# Altium schematic symbol library Darkside_Lib.SchLib: 35 symbols
Pins are listed as number, name and electrical type; pins without a type are passive.

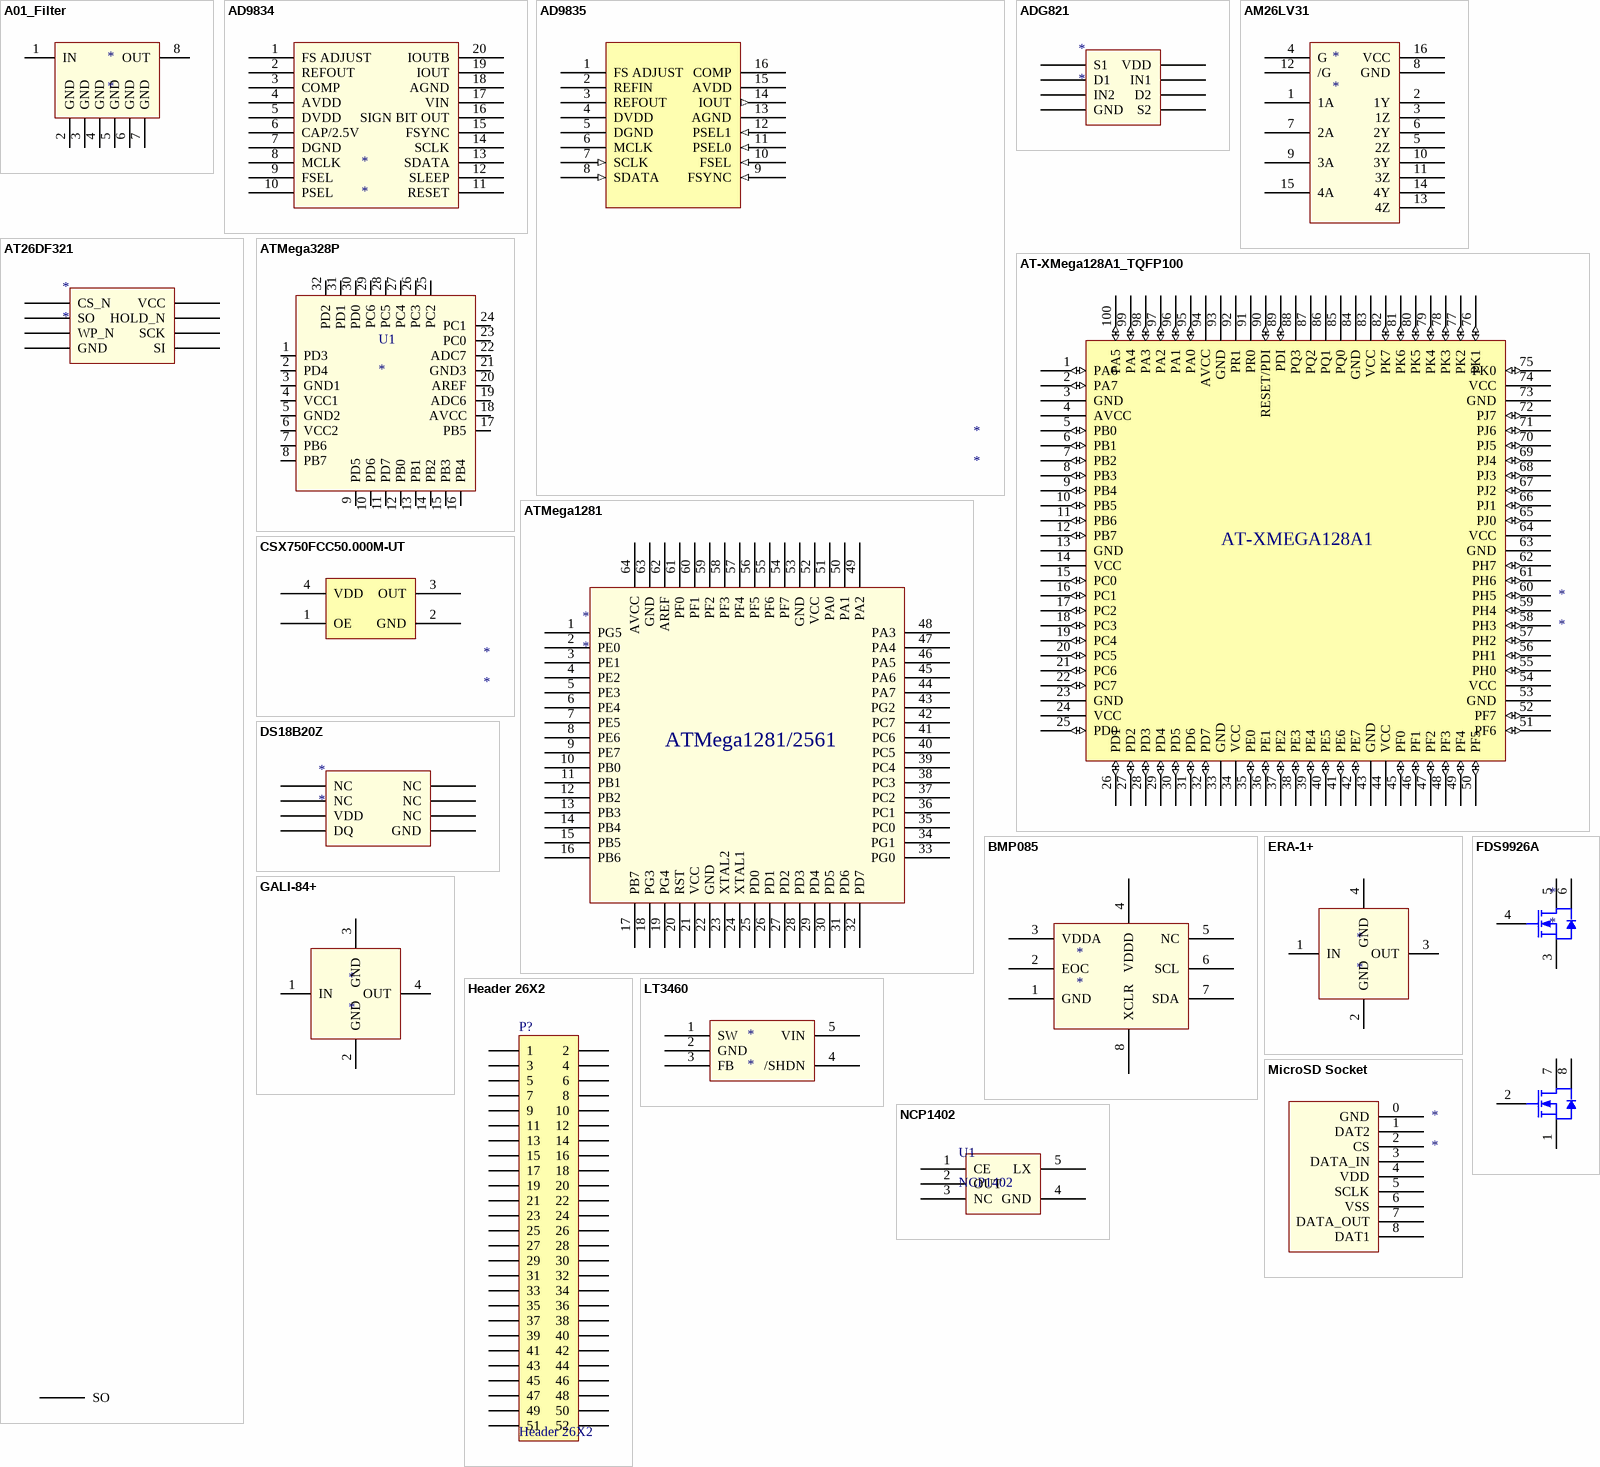
[diagram p0: symbols A01_Filter to NCP1402]

## A01_Filter
designator *
footprint A01
pins: 1 IN, 2 GND, 3 GND, 4 GND, 5 GND, 6 GND, 7 GND, 8 OUT

## AD9834
designator *
footprint TSOP20 (TSOP, 20-Leads, Body 6.6x4.5mm (max), Pitch 0.65mm, IPC Medium Density)
pins: 1 FS ADJUST, 2 REFOUT, 3 COMP, 4 AVDD, 5 DVDD, 6 CAP/2.5V, 7 DGND, 8 MCLK, 9 FSEL, 10 PSEL, 11 RESET, 12 SLEEP, 13 SDATA, 14 SCLK, 15 FSYNC, 16 SIGN BIT OUT, 17 VIN, 18 AGND, 19 IOUT, 20 IOUTB

## AD9835
designator *
footprint TSSOP16 (Footprint not found)
pins: 1 FS ADJUST, 2 REFIN, 3 REFOUT, 4 DVDD (power), 5 DGND (power), 6 MCLK, 7 SCLK (in), 8 SDATA (in), 9 FSYNC (in), 10 FSEL (in), 11 PSEL0 (in), 12 PSEL1 (in), 13 AGND (power), 14 IOUT (out), 15 AVDD (power), 16 COMP

## ADG821
designator *
footprint TSOP_8_AD (TSOP, 8-Leads, Body 3.2x3.2mm (max), Pitch 0.65mm, IPC Medium Density)
pins: 1 S1, 2 D1, 3 IN2, 4 GND, 5 S2, 6 D2, 7 IN1, 8 VDD

## AM26LV31
designator *
footprint SOP127P600X175-16N (SOP, 16-Leads, Body 10.0x4.0mm (max), Pitch 1.27mm, IPC Medium Density)
pins: 1 1A, 2 1Y, 3 1Z, 4 G, 5 2Z, 6 2Y, 7 2A, 8 GND, 9 3A, 10 3Y, 11 3Z, 12 /G, 13 4Z, 14 4Y, 15 4A, 16 VCC

## AT26DF321
designator *
footprint SOIC127P800X216-8N (SOIC, 8-Leads, Body 5.3x5.4mm (max), Pitch 1.27mm, IPC Medium Density)
pins: 1 CS_N, 2 SO, 3 SO, 3 WP_N, 4 GND, 5 SI, 6 SCK, 7 HOLD_N, 8 VCC

## AT-XMega128A1_TQFP100
designator *
footprint TQFP100_L (Footprint not found)
pins: 1 PA6 (io), 2 PA7 (io), 3 GND (power), 4 AVCC (power), 5 PB0 (io), 6 PB1 (io), 7 PB2 (io), 8 PB3 (io), 9 PB4 (io), 10 PB5 (io), 11 PB6 (io), 12 PB7 (io), 13 GND (power), 14 VCC (power), 15 PC0 (io), 16 PC1 (io), 17 PC2 (io), 18 PC3 (io), 19 PC4 (io), 20 PC5 (io), 21 PC6 (io), 22 PC7 (io), 23 GND (power), 24 VCC (power), 25 PD0 (io), 26 PD1 (io), 27 PD2 (io), 28 PD3 (io), 29 PD4 (io), 30 PD5 (io), 31 PD6 (io), 32 PD7 (io), 33 GND (power), 34 VCC (power), 35 PE0 (io), 36 PE1 (io), 37 PE2 (io), 38 PE3 (io), 39 PE4 (io), 40 PE5 (io), 41 PE6 (io), 42 PE7 (io), 43 GND (power), 44 VCC (power), 45 PF0 (io), 46 PF1 (io), 47 PF2 (io), 48 PF3 (io), 49 PF4 (io), 50 PF5 (io), 51 PF6 (io), 52 PF7 (io), 53 GND (power), 54 VCC (power), 55 PH0 (io), 56 PH1 (io), 57 PH2 (io), 58 PH3 (io), 59 PH4 (io), 60 PH5 (io), 61 PH6 (io), 62 PH7 (io), 63 GND (power), 64 VCC (power), 65 PJ0 (io), 66 PJ1 (io), 67 PJ2 (io), 68 PJ3 (io), 69 PJ4 (io), 70 PJ5 (io), 71 PJ6 (io), 72 PJ7 (io), 73 GND (power), 74 VCC (power), 75 PK0 (io), 76 PK1 (io), 77 PK2 (io), 78 PK3 (io), 79 PK4 (io), 80 PK5 (io), 81 PK6 (io), 82 PK7 (io), 83 VCC (power), 84 GND (power), 85 PQ0, 86 PQ1, 87 PQ2, 88 PQ3, 89 PDI (io), 90 RESET/PDI (io), 91 PR0, 92 PR1, 93 GND (power), 94 AVCC (power), 95 PA0 (io), 96 PA1 (io), 97 PA2 (io), 98 PA3 (io), 99 PA4 (io), 100 PA5 (io)
text: AT-XMEGA128A1

## ATMega328P
designator U1
footprint TQFP32 (TQFP, 32-Leads, Body 7.3x9.3mm (max), Pitch 0.80mm, IPC Medium Density)
pins: 1 PD3, 2 PD4, 3 GND1, 4 VCC1, 5 GND2, 6 VCC2, 7 PB6, 8 PB7, 9 PD5, 10 PD6, 11 PD7, 12 PB0, 13 PB1, 14 PB2, 15 PB3, 16 PB4, 17 PB5, 18 AVCC, 19 ADC6, 20 AREF, 21 GND3, 22 ADC7, 23 PC0, 24 PC1, 25 PC2, 26 PC3, 27 PC4, 28 PC5, 29 PC6, 30 PD0, 31 PD1, 32 PD2

## ATMega1281
designator *
footprint TQFP80P1600X1600X120-64N (TQFP, 64-Leads, Body 16.3x16.3mm (max), Pitch 0.80mm, IPC Medium Density)
pins: 1 PG5 "OC0B", 2 PE0 "OC0B", 3 PE1 "OC0B", 4 PE2 "OC0B", 5 PE3 "OC0B", 6 PE4 "OC0B", 7 PE5 "OC0B", 8 PE6 "OC0B", 9 PE7 "OC0B", 10 PB0 "OC0B", 11 PB1 "OC0B", 12 PB2 "OC0B", 13 PB3 "OC0B", 14 PB4 "OC0B", 15 PB5 "OC0B", 16 PB6 "OC0B", 17 PB7 "OC0B", 18 PG3 "OC0B", 19 PG4 "OC0B", 20 RST "OC0B", 21 VCC "OC0B", 22 GND "OC0B", 23 XTAL2 "OC0B", 24 XTAL1 "OC0B", 25 PD0 "OC0B", 26 PD1 "OC0B", 27 PD2 "OC0B", 28 PD3 "OC0B", 29 PD4 "OC0B", 30 PD5 "OC0B", 31 PD6 "OC0B", 32 PD7 "OC0B", 33 PG0 "OC0B", 34 PG1 "OC0B", 35 PC0 "OC0B", 36 PC1 "OC0B", 37 PC2 "OC0B", 38 PC3 "OC0B", 39 PC4 "OC0B", 40 PC5 "OC0B", 41 PC6 "OC0B", 42 PC7 "OC0B", 43 PG2 "OC0B", 44 PA7 "OC0B", 45 PA6 "OC0B", 46 PA5 "OC0B", 47 PA4 "OC0B", 48 PA3 "OC0B", 49 PA2 "OC0B", 50 PA1 "OC0B", 51 PA0 "OC0B", 52 VCC "OC0B", 53 GND "OC0B", 54 PF7 "OC0B", 55 PF6 "OC0B", 56 PF5 "OC0B", 57 PF4 "OC0B", 58 PF3 "OC0B", 59 PF2 "OC0B", 60 PF1 "OC0B", 61 PF0 "OC0B", 62 AREF "OC0B", 63 GND "OC0B", 64 AVCC "OC0B"
text: ATMega1281/2561

## BMP085
designator *
footprint BMP085
pins: 1 GND, 2 EOC, 3 VDDA, 4 VDDD, 5 NC, 6 SCL, 7 SDA, 8 XCLR

## CSX750FCC50.000M-UT
designator *
footprint QFN50P700X500X160-4N (QFN, 4-Leads, Body 5.2x7.2mm (max), Pitch 5.08mm, Pitch1 0.50mm, IPC Medium Density)
pins: 1 OE, 2 GND, 3 OUT, 4 VDD

## DS18B20Z
designator *
footprint SO8_M (SOIC, 8-Leads, Body 4.9x3.9mm, Pitch 1.27mm, IPC Low Density)
pins: 1 NC, 2 NC, 3 VDD, 4 DQ, 5 GND, 6 NC, 7 NC, 8 NC

## ERA-1+
designator *
footprint VV105
pins: 1 IN, 2 GND, 3 OUT, 4 GND

## FDS9926A
designator *
footprint SO8_M (SOIC, 8-Leads, Body 4.9x3.9mm, Pitch 1.27mm, IPC Low Density)
pins: 1 S, 2 G, 3 S, 4 G, 5 D, 6 D, 7 D, 8 D

## GALI-84+
designator *
footprint DF782
pins: 1 IN, 2 GND, 3 GND, 4 OUT

## Header 26X2
designator P?
Header, 25-Pin, Dual row; LatestRevisionDate: 17-Jul-2002; LatestRevisionNote: Re-released for DXP Platform.; Publisher: Altium Limited
signal-integrity model Connector
footprint HDR2X26 (Connector; Header; 25x2 Position)
pins: 1, 2, 3, 4, 5, 6, 7, 8, 9, 10, 11, 12, 13, 14, 15, 16, 17, 18, 19, 20, 21, 22, 23, 24, 25, 26, 27, 28, 29, 30, 31, 32, 33, 34, 35, 36, 37, 38, 39, 40, 41, 42, 43, 44, 45, 46, 47, 48, 49, 50, 51, 52

## LT3460
designator *
footprint SOT95P280X100-5N (SOT23, 5-Leads, Body 2.9x2.8mm (max), Pitch 0.95mm, IPC Medium Density)
pins: 1 SW, 2 GND, 3 FB, 4 /SHDN, 5 VIN

## MicroSD Socket
designator *
footprint microSD Socket
pins: 0 GND, 1 DAT2, 2 CS, 3 DATA_IN, 4 VDD, 5 SCLK, 6 VSS, 7 DATA_OUT, 8 DAT1

## NCP1402
designator U1
footprint SOT95P280X100-5N (SOT23, 5-Leads, Body 2.9x2.8mm (max), Pitch 0.95mm, IPC Medium Density)
pins: 1 CE, 2 OUT, 3 NC, 4 GND, 5 LX

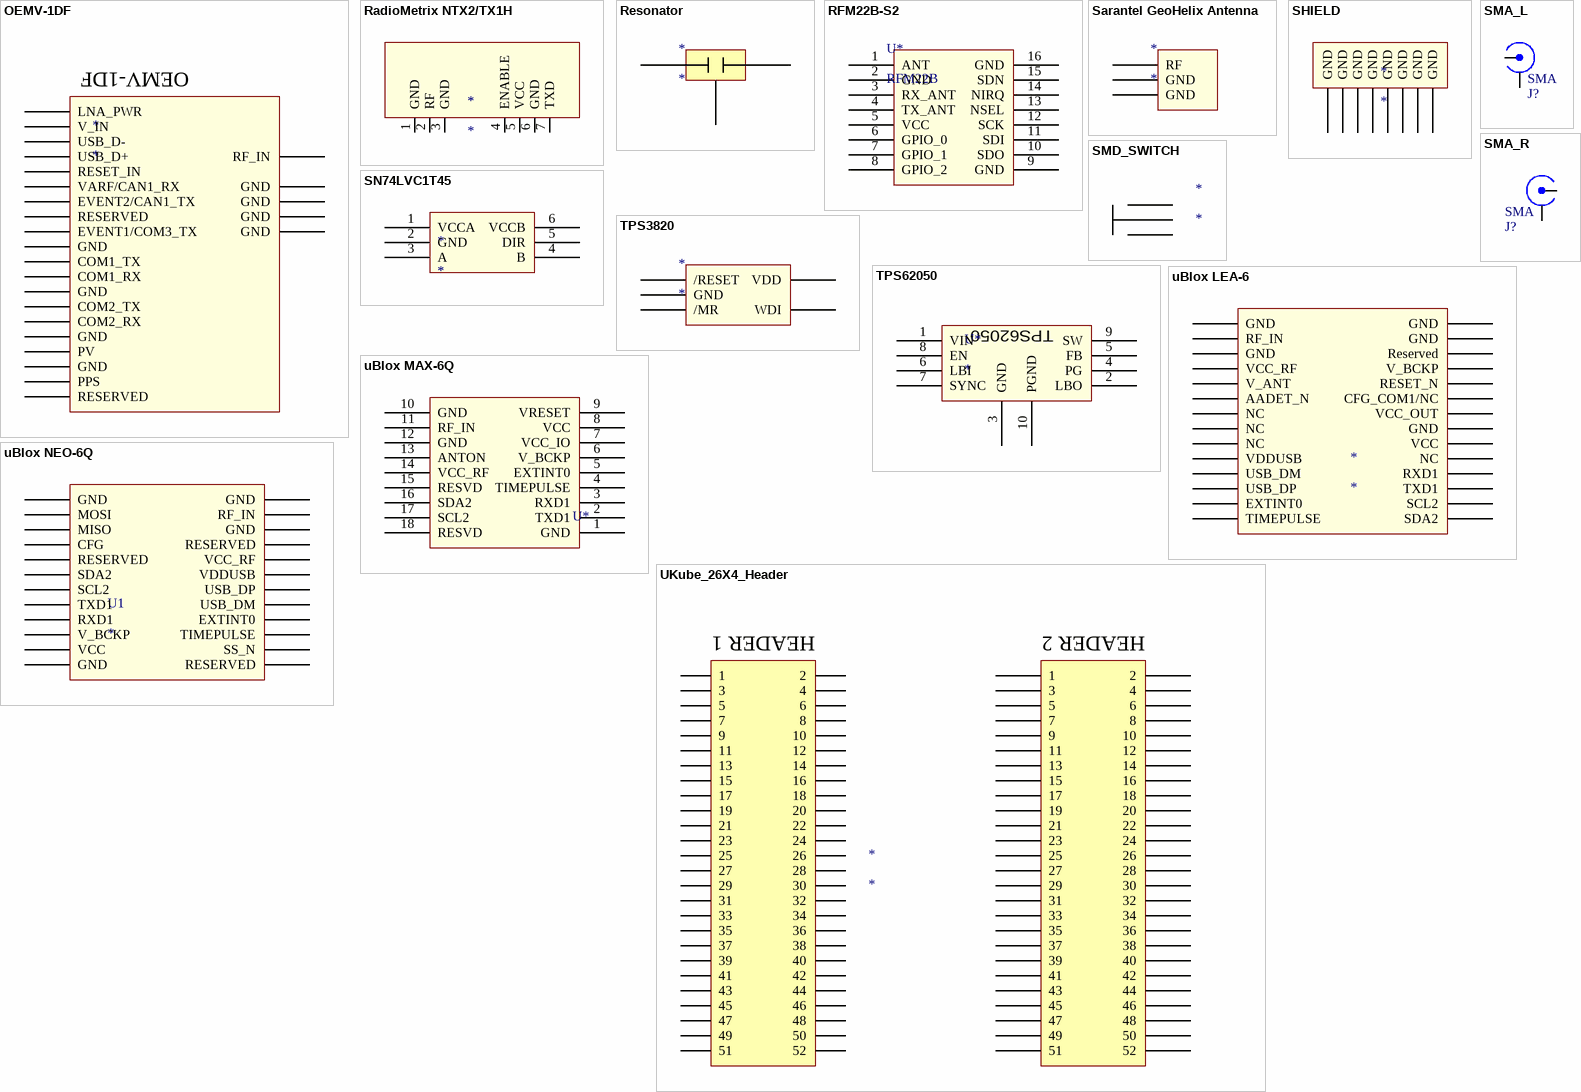
[diagram p1: symbols OEMV-1DF to UKube_26X4_Header]

## OEMV-1DF
designator *
footprint OEMV_1DF
pins: 1 LNA_PWR, 2 V_IN, 3 USB_D-, 4 USB_D+, 5 RESET_IN, 6 VARF/CAN1_RX, 7 EVENT2/CAN1_TX, 8 RESERVED, 9 EVENT1/COM3_TX, 10 GND, 11 COM1_TX, 12 COM1_RX, 13 GND, 14 COM2_TX, 15 COM2_RX, 16 GND, 17 PV, 18 GND, 19 PPS, 20 RESERVED, 21 RF_IN, 22 GND, 23 GND, 24 GND, 25 GND

## RadioMetrix NTX2/TX1H
designator *
footprint NTX2
pins: 1 GND, 2 RF, 3 GND, 4 ENABLE, 5 VCC, 6 GND, 7 TXD

## Resonator
designator *
footprint ABM3-RESONATOR
pins: 1, 2, 3

## RFM22B-S2
designator U*, comment RFM22B
footprint RFM22B
pins: 1 ANT, 2 GND, 3 RX_ANT, 4 TX_ANT, 5 VCC, 6 GPIO_0, 7 GPIO_1, 8 GPIO_2, 9 GND, 10 SDO, 11 SDI, 12 SCK, 13 NSEL, 14 NIRQ, 15 SDN, 16 GND

## Sarantel GeoHelix Antenna
designator *
footprint SARANTEL SL1204
footprint Sarantel SL1202RH
pins: 1 RF, 2 GND, 3 GND

## SHIELD
designator *
footprint SHIELD
footprint SHIELD_OLD
pins: 1 GND, 2 GND, 3 GND, 4 GND, 5 GND, 6 GND, 7 GND, 8 GND

## SMA_L
designator J?  value SMA  (hidden comment: SMA_L)
Power Connector
footprint CON SMA PCB 90 (UofA Lib Pavel)
footprint SMA_EDGE
pins: 1, 2

## SMA_R
designator J?  value SMA  (hidden comment: SMA_R)
Power Connector
footprint CON SMA PCB 90 (UofA Lib Pavel)
footprint SMA_EDGE
pins: 1, 2

## SMD_SWITCH
designator *
footprint Solder Switch
pins: 1 IN, 2 OUT1, 3 OUT2

## SN74LVC1T45
designator *
footprint SOT23_BUFF (SOT23, 6-Leads, Body 3.0x3.0mm (max), Pitch 0.95mm, IPC Medium Density)
pins: 1 VCCA, 2 GND, 3 A, 4 B, 5 DIR, 6 VCCB

## TPS3820
designator *
footprint SOT23_WATCHDOG (SOT23, 5-Leads, Body 3.0x3.0mm (max), Pitch 0.95mm, IPC Medium Density)
pins: 1 /RESET, 2 GND, 3 /MR, 4 WDI, 5 VDD

## TPS62050
designator U*
footprint TSSOP50P490X110-10N (TSSOP, 10-Leads, Body 3.1x3.1mm (max), Pitch 0.50mm, IPC Medium Density)
pins: 1 VIN, 2 LBO, 3 GND, 4 PG, 5 FB, 6 LBI, 7 SYNC, 8 EN, 9 SW, 10 PGND

## uBlox LEA-6
designator *
footprint LEA-6
pins: 1 SDA2, 2 SCL2, 3 TXD1, 4 RXD1, 5 NC, 6 VCC, 7 GND, 8 VCC_OUT, 9 CFG_COM1/NC, 10 RESET_N, 11 V_BCKP, 12 Reserved, 13 GND, 14 GND, 15 GND, 16 RF_IN, 17 GND, 18 VCC_RF, 19 V_ANT, 20 AADET_N, 21 NC, 22 NC, 23 NC, 24 VDDUSB, 25 USB_DM, 26 USB_DP, 27 EXTINT0, 28 TIMEPULSE

## uBlox MAX-6Q
designator U*  (value not drawn)
footprint MAX-6Q
pins: 1 GND "OC0B", 2 TXD1 "OC0B", 3 RXD1 "OC0B", 4 TIMEPULSE "OC0B", 5 EXTINT0 "OC0B", 6 V_BCKP "OC0B", 7 VCC_IO "OC0B", 8 VCC "OC0B", 9 VRESET "OC0B", 10 GND "OC0B", 11 RF_IN "OC0B", 12 GND "OC0B", 13 ANTON "OC0B", 14 VCC_RF "OC0B", 15 RESVD "OC0B", 16 SDA2 "OC0B", 17 SCL2 "OC0B", 18 RESVD "OC0B"

## uBlox NEO-6Q
designator U1
footprint NEO_6
pins: 1 RESERVED, 2 SS_N, 3 TIMEPULSE, 4 EXTINT0, 5 USB_DM, 6 USB_DP, 7 VDDUSB, 8 VCC_RF, 9 RESERVED, 10 GND, 11 RF_IN, 12 GND, 13 GND, 14 MOSI, 15 MISO, 16 CFG, 17 RESERVED, 18 SDA2, 19 SCL2, 20 TXD1, 21 RXD1, 22 V_BCKP, 23 VCC, 24 GND

## UKube_26X4_Header
designator *
footprint HDR4X26 (Connector; Header; 25x2 Position)
pins: 1, 2, 2_1 1, 2_2 2, 2_3 3, 2_4 4, 2_5 5, 2_6 6, 2_7 7, 2_8 8, 2_9 9, 2_10 10, 2_11 11, 2_12 12, 2_13 13, 2_14 14, 2_15 15, 2_16 16, 2_17 17, 2_18 18, 2_19 19, 2_20 20, 2_21 21, 2_22 22, 2_23 23, 2_24 24, 2_25 25, 2_26 26, 2_27 27, 2_28 28, 2_29 29, 2_30 30, 2_31 31, 2_32 32, 2_33 33, 2_34 34, 2_35 35, 2_36 36, 2_37 37, 2_38 38, 2_39 39, 2_40 40, 2_41 41, 2_42 42, 2_43 43, 2_44 44, 2_45 45, 2_46 46, 2_47 47, 2_48 48, 2_49 49, 2_50 50, 2_51 51, 2_52 52, 3, 4, 5, 6, 7, 8, 9, 10, 11, 12, 13, 14, 15, 16, 17, 18, 19, 20, 21, 22, 23, 24, 25, 26, 27, 28, 29, 30, 31, 32, 33, 34, 35, 36, 37, 38, 39, 40, 41, 42, 43, 44, 45, 46, 47, 48, 49, 50, 51, 52
text: HEADER 1; HEADER 2